# EAGLE library part ESP8266_ESP-12 (library ESP8266-ESP12)
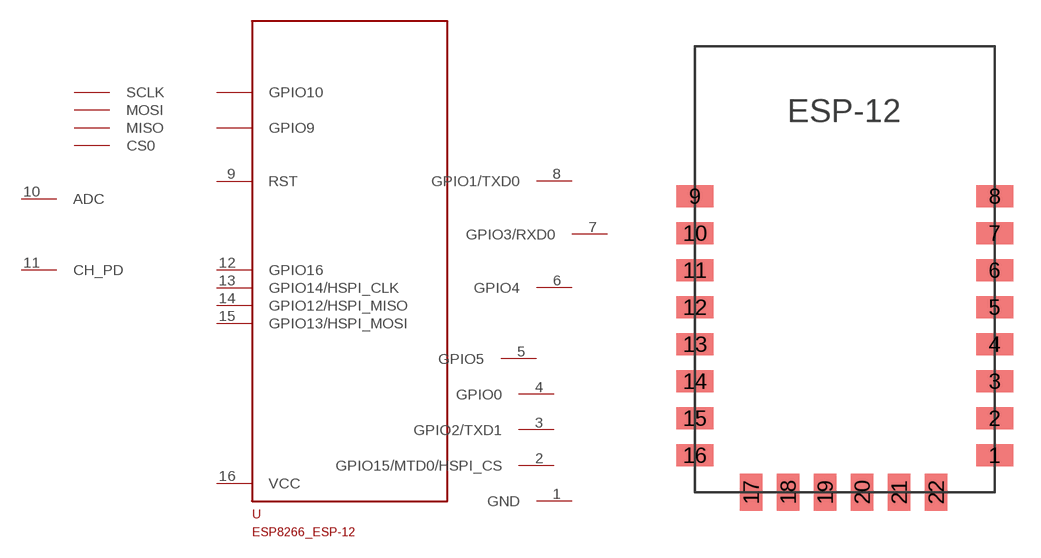
[diagram p0: symbol with the pads of ESP8266-ESP12; footprint ESP8266-ESP12]

Designator prefix -

## ESP8266_ESP-12  [ESP8266-ESP12]
1  GND
2  GPIO15/MTD0/HSPI_CS
3  GPIO2/TXD1
4  GPIO0
5  GPIO5
6  GPIO4
7  GPIO3/RXD0
8  GPIO1/TXD0
9  RST
10  ADC
11  CH_PD
12  GPIO16
13  GPIO14/HSPI_CLK
14  GPIO12/HSPI_MISO
15  GPIO13/HSPI_MOSI
16  VCC

## Footprint ESP8266-ESP12 (pad centres in mm)
smd 2 x 1.2: 1 16.2,2; 2 16.2,4; 3 16.2,6; 4 16.2,8; 5 16.2,10; 6 16.2,12; 7 16.2,14; 8 16.2,16; 9 0,16; 10 0,14; 11 0,12; 12 0,10; 13 0,8; 14 0,6; 15 0,4; 16 0,2
smd 1.2 x 2: 17 3.04,0; 18 5.04,0; 19 7.04,0; 20 9.04,0; 21 11.04,0; 22 13.04,0